# EAGLE library part TC1240 (library dubec)
TC1240 - Charge Pump Switching Regulator IC Positive Fixed 2Vin 1 Output 40mA
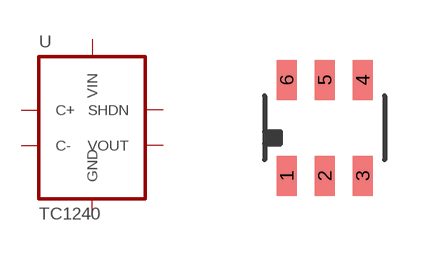
[diagram p25: symbol with the pads of SOT-23-6; footprint SOT-23-6]

Designator prefix -

## TC1240A (DIGIKEY_PART_#: TC1240AECHCT-ND; EURO: 15.53/25; FREQUENCY: 80kHz; MANUFACTURER: Microchip Technology; MFG_PART_#: TC1240AECHTR; TEMP: -40°C ~ 85°C (TA); VIN: 2.5-5.5V)  [SOT-23-6]
1  VIN  pwr
2  GND  pwr
3  C-  pas
4  SHDN  pas
5  VOUT  pwr
6  C+  pas

## Footprint SOT-23-6 (pad centres in mm)
smd 0.5 x 1: 1 -0.95,-1.2; 2 0,-1.2; 3 0.95,-1.2; 4 0.95,1.2; 5 0,1.2; 6 -0.95,1.2